# Altium footprint library PcbLib_bldc.PcbLib: 22 footprints (part 2 of 2)
Each footprint in its own frame and in the unit in brackets; x right, y up, seen from the top. Pads: shape width x height; smd on the part's side, far side on the other; paste and mask are expansions set on the pad; w line width, h text height; cw(c..) or ccw(c..) is an arc to the next point about the centre after c.
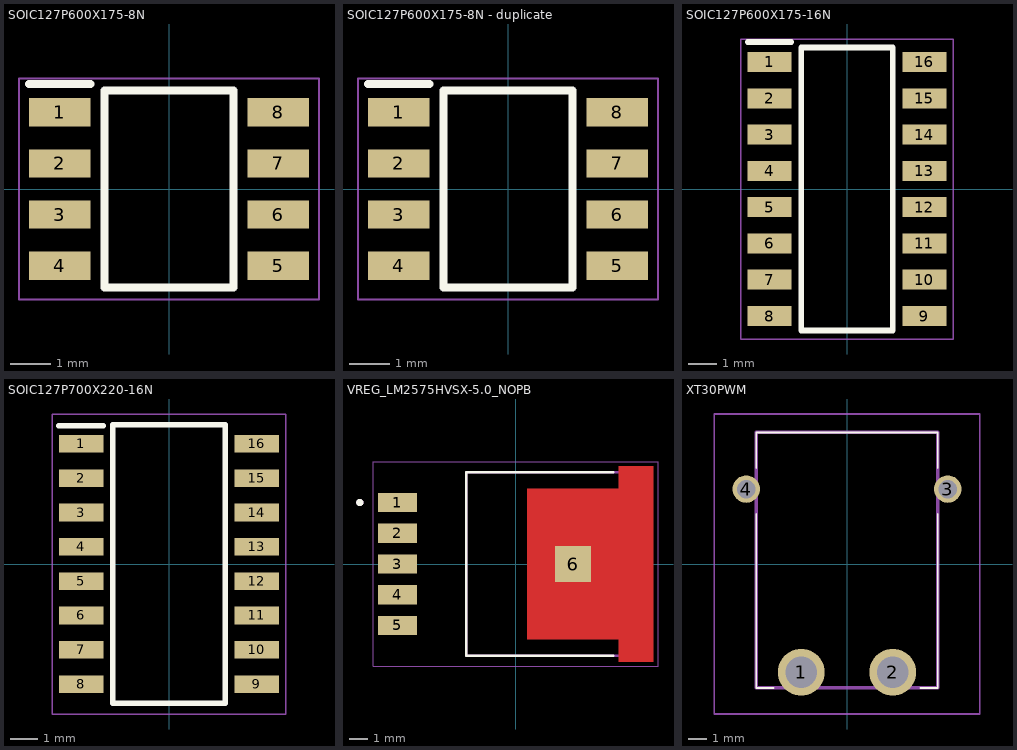
[diagram p1: the footprints below, top view; thin cyan lines are the x and y axes]

## SOIC127P600X175-8N [mm]
pads (8):
  rect 1.525x0.7 smd: 1(-2.712,1.905) 2(-2.712,0.635) 3(-2.712,-0.635) 4(-2.712,-1.905) 5(2.712,-1.905) 6(2.712,-0.635) 7(2.712,0.635) 8(2.712,1.905)
Top Overlay:
  lines w0.2: -3.475,2.605 -1.95,2.605 ; -1.6,-2.45 -1.6,2.45 1.6,2.45 1.6,-2.45 -1.6,-2.45
Mechanical 20:
  lines w0.05: -3.725,-2.75 -3.725,2.75 3.725,2.75 3.725,-2.75 -3.725,-2.75
3D body "IR2101S.stp": height 1.75, standoff 0, extent -3,-2.45 3,2.45

## SOIC127P600X175-8N - duplicate [mm]
pads (8):
  rect 1.525x0.7 smd: 1(-2.712,1.905) 2(-2.712,0.635) 3(-2.712,-0.635) 4(-2.712,-1.905) 5(2.712,-1.905) 6(2.712,-0.635) 7(2.712,0.635) 8(2.712,1.905)
Top Overlay:
  lines w0.2: -3.475,2.605 -1.95,2.605 ; -1.6,-2.45 1.6,-2.45 1.6,2.45 -1.6,2.45 -1.6,-2.45
Mechanical 20:
  lines w0.05: -3.725,-2.75 3.725,-2.75 3.725,2.75 -3.725,2.75 -3.725,-2.75

## SOIC127P600X175-16N [mm]
pads (16):
  rect 1.525x0.7 smd: 1(-2.712,4.445) 2(-2.712,3.175) 3(-2.712,1.905) 4(-2.712,0.635) 5(-2.712,-0.635) 6(-2.712,-1.905) 7(-2.712,-3.175) 8(-2.712,-4.445) 9(2.712,-4.445) 10(2.712,-3.175) 11(2.712,-1.905) 12(2.712,-0.635) 13(2.712,0.635) 14(2.712,1.905) 15(2.712,3.175) 16(2.712,4.445)
Top Overlay:
  lines w0.2: -3.475,5.145 -1.95,5.145 ; -1.6,-4.95 -1.6,4.95 1.6,4.95 1.6,-4.95 -1.6,-4.95
Mechanical 20:
  lines w0.05: -3.725,-5.25 -3.725,5.25 3.725,5.25 3.725,-5.25 -3.725,-5.25
3D body "SOP16.stp": height 1.75, standoff 0, extent -3,-4.95 3,4.95

## SOIC127P700X220-16N [mm]
pads (16):
  rect 1.65x0.65 smd: 1(-3.25,4.445) 2(-3.25,3.175) 3(-3.25,1.905) 4(-3.25,0.635) 5(-3.25,-0.635) 6(-3.25,-1.905) 7(-3.25,-3.175) 8(-3.25,-4.445) 9(3.25,-4.445) 10(3.25,-3.175) 11(3.25,-1.905) 12(3.25,-0.635) 13(3.25,0.635) 14(3.25,1.905) 15(3.25,3.175) 16(3.25,4.445)
Top Overlay:
  lines w0.2: -4.075,5.12 -2.425,5.12 ; -2.075,-5.15 -2.075,5.15 2.075,5.15 2.075,-5.15 -2.075,-5.15
Mechanical 20:
  lines w0.05: -4.325,-5.55 -4.325,5.55 4.325,5.55 4.325,-5.55 -4.325,-5.55
3D body "TLP291-4_GB,E_T.stp": height 2.2, standoff 0, extent -3.5,-5.172 3.5,5.128

## VREG_LM2575HVSX-5.0_NOPB [mm]
height 4.65
pads (6):
  rect 2.16x1.07 smd: 1(-6.545,3.4) 2(-6.545,1.7) 3(-6.545,0) 4(-6.545,-1.7) 5(-6.545,-3.4)
  rect 2x2 smd paste-2 mask+0: 6(3.175,0)
Top Layer:
  region: 7.625,-5.4 5.715,-5.4 5.715,-4.165 0.635,-4.165 0.635,4.165 5.715,4.165 5.715,5.4 7.625,5.4
Top Overlay:
  circle w0.2: c-8.625,3.4 r0.1
  lines w0.127: 5.395,-5.08 -2.735,-5.08 -2.735,5.08 5.395,5.08
Top Paste:
  region: 7.095,-5.335 6.245,-5.335 6.245,-4.115 7.095,-4.115
  region: 7.095,-3.985 6.245,-3.985 6.245,-2.765 7.095,-2.765
  region: 7.095,-2.635 6.245,-2.635 6.245,-1.415 7.095,-1.415
  region: 7.095,4.115 6.245,4.115 6.245,5.335 7.095,5.335
  region: 7.095,2.765 6.245,2.765 6.245,3.985 7.095,3.985
  region: 7.095,1.415 6.245,1.415 6.245,2.635 7.095,2.635
  region: 7.095,-1.285 6.245,-1.285 6.245,-0.065 7.095,-0.065
  region: 7.095,0.065 6.245,0.065 6.245,1.285 7.095,1.285
  region: 5.145,2.365 3.745,2.365 3.745,3.875 5.145,3.875
  region: 2.605,2.365 1.205,2.365 1.205,3.875 2.605,3.875
  region: 5.145,-3.875 3.745,-3.875 3.745,-2.365 5.145,-2.365
  region: 2.605,-3.875 1.205,-3.875 1.205,-2.365 2.605,-2.365
  region: 5.145,-1.795 3.745,-1.795 3.745,-0.285 5.145,-0.285
  region: 2.605,-1.795 1.205,-1.795 1.205,-0.285 2.605,-0.285
  region: 5.145,0.285 3.745,0.285 3.745,1.795 5.145,1.795
  region: 2.605,0.285 1.205,0.285 1.205,1.795 2.605,1.795
Top Solder:
  region: 7.725,-5.5 5.615,-5.5 5.615,-4.265 0.535,-4.265 0.535,4.265 5.615,4.265 5.615,5.5 7.725,5.5
Mechanical 13:
  circle w0.2: c-8.625,3.4 r0.1
  lines w0.127: -2.735,-5.08 5.905,-5.08 5.905,5.08 -2.735,5.08 -2.735,-5.08
Mechanical 15:
  lines w0.05: -7.875,-5.65 7.875,-5.65 7.875,5.65 -7.875,5.65 -7.875,-5.65
3D body "step_temp.STEP": height 4.83, standoff -0.25, extent -7.301,-5.08 7.609,5.08

## XT30PWM [mm]
pads (4):
  round 2.55 hole 1.7: 1(-2.5,-5.912) 2(2.5,-5.912)
  round 1.5 hole 1: 3(5.5,4.088) 4(-5.5,4.088)
Top Overlay:
  lines w0.1: -4.95,2.737 -4.95,-6.762 -4,-6.762 ; -4.95,5.237 -4.95,7.187 4.95,7.187 4.95,5.237 ; 4,-6.762 4.95,-6.762 4.95,2.737
Mechanical 15:
  lines w0.2: -4.95,-6.762 4.95,-6.762 4.95,7.187 -4.95,7.187 -4.95,-6.762
Mechanical 20:
  lines w0.1: -7.25,-8.188 7.25,-8.188 7.25,8.188 -7.25,8.188 -7.25,-8.188
3D body "XT30PW-M.stp": height 5.22, standoff -2.28, extent -6.599,-6.909 6.701,7.041